# EAGLE library part UJ2-MBH-2-SMT (library UJ2-MBH-2-SMT)
6 µin Plating Thickness, Black Insulator, USB Receptacle
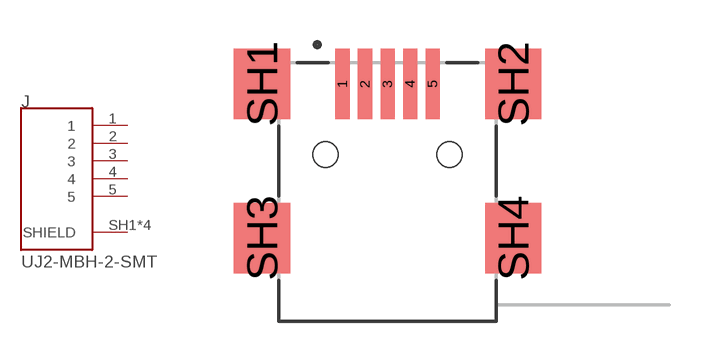
[diagram p0: symbol with the pads of CUI_UJ2-MBH-2-SMT; footprint CUI_UJ2-MBH-2-SMT]

Designator prefix J

## UJ2-MBH-2-SMT (MANUFACTURER: CUI INC; PART_REV: 1.0; STANDARD: MANUFACTURER RECOMMENDATION)  [CUI_UJ2-MBH-2-SMT]
1  1  pas
2  2  pas
3  3  pas
4  4  pas
5  5  pas
SH1  SHIELD  pas
SH2  SHIELD  pas
SH3  SHIELD  pas
SH4  SHIELD  pas

## Footprint CUI_UJ2-MBH-2-SMT (pad centres in mm)
smd 0.5 x 2.5: 1 0,0; 2 0.8,0; 3 1.6,0; 4 2.4,0; 5 3.2,0
smd 2 x 2.5: SH1 -2.86,0; SH2 6.06,0; SH3 -2.86,-5.48; SH4 6.06,-5.48
hole 0.9 at -0.6,-2.51
hole 0.9 at 3.8,-2.51